# Altium schematic symbol library kmilo17pet-NSC_MiscPower.SchLib: 1552 symbols (part 8 of 43)
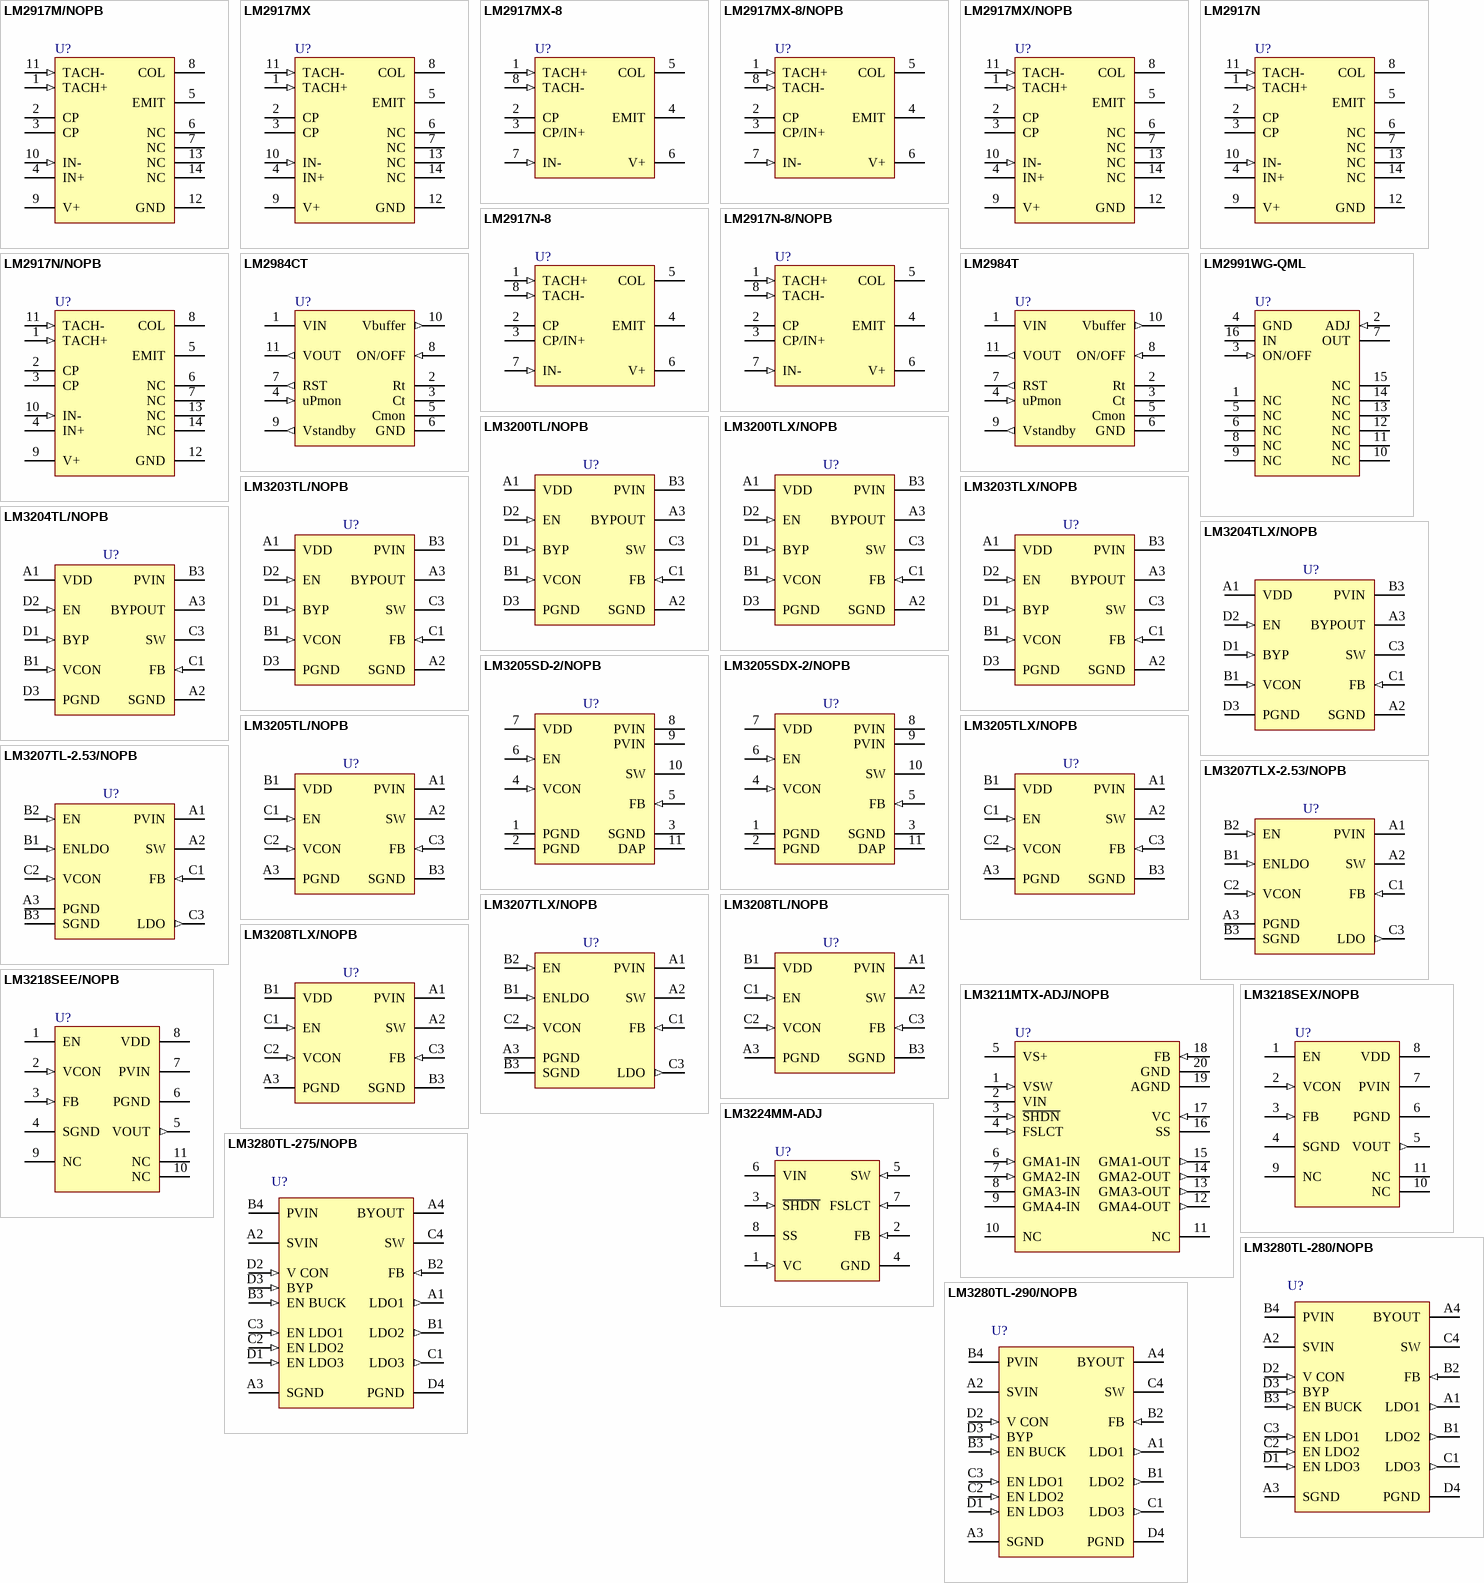
[diagram p64: symbols LM2917M/NOPB to LM3280TL-290/NOPB]

## LM3204TL/NOPB
designator U?
Miniature, Adjustable, Step-Down DC-DC Converter with Bypass Mode for RF Power Amplifiers, 10-pin Micro SMD, Pb-Free; PartNumber: LM3204TL/NOPB; Manufacturer: National Semiconductor; PackageTopMarking: XYTT*I SJDB; PowerWise: Y; CompType: MiscPower; DatasheetVersion: Nov-2005; PackageVersion: revD, Mar-2004; PackageReference: TLP10NHA; PackageDescription: Thin Micro SMD, 10 Bump (Large), Periperal, 0.5mm Pitch; RoHS: Y; PinCount: 10; High-Reliability: Y; Code_JEDEC: MO-211-BD; ComponentLink1Description: Manufacturer URL; ComponentLink1URL: http://www.national.com/; ComponentLink2Description: LM3204 Datasheet; ComponentLink2URL: http://www.national.com/ds/LM/LM3204.pdf; ComponentLink3Description: LM3204 Web Page; ComponentLink3URL: http://www.national.com/pf/LM/LM3204.html; ComponentLink4Description: TLP10NHA Package Page; ComponentLink4URL: http://www.national.com/packaging/folders/tlp10nha.html
footprint TLP10NHA (Micro SMD, 10-Leads, Body 2.17x1.82mm, Pitch 0.5mm, NSC Recommended)
pins: A1 VDD (power), A2 SGND (power), A3 BYPOUT (oe), B1 VCON (in), B3 PVIN (power), C1 FB (in), C3 SW, D1 BYP (in), D2 EN (in), D3 PGND (power)

## LM3204TLX/NOPB
designator U?
Miniature, Adjustable, Step-Down DC-DC Converter with Bypass Mode for RF Power Amplifiers, 10-pin Micro SMD, Pb-Free; PartNumber: LM3204TLX/NOPB; Manufacturer: National Semiconductor; PackageTopMarking: XYTT*I SJDB; PowerWise: Y; CompType: MiscPower; DatasheetVersion: Nov-2005; PackageVersion: revD, Mar-2004; PackageReference: TLP10NHA; PackageDescription: Thin Micro SMD, 10 Bump (Large), Periperal, 0.5mm Pitch; RoHS: Y; PinCount: 10; High-Reliability: Y; Code_JEDEC: MO-211-BD; ComponentLink1Description: Manufacturer URL; ComponentLink1URL: http://www.national.com/; ComponentLink2Description: LM3204 Datasheet; ComponentLink2URL: http://www.national.com/ds/LM/LM3204.pdf; ComponentLink3Description: LM3204 Web Page; ComponentLink3URL: http://www.national.com/pf/LM/LM3204.html; ComponentLink4Description: TLP10NHA Package Page; ComponentLink4URL: http://www.national.com/packaging/folders/tlp10nha.html
footprint TLP10NHA (Micro SMD, 10-Leads, Body 2.17x1.82mm, Pitch 0.5mm, NSC Recommended)
pins: A1 VDD (power), A2 SGND (power), A3 BYPOUT (oe), B1 VCON (in), B3 PVIN (power), C1 FB (in), C3 SW, D1 BYP (in), D2 EN (in), D3 PGND (power)

## LM3205SD-2/NOPB
designator U?
650mA Miniature, Adjustable, Step-Down DC-DC Converter for RF Power Amplifiers, 10-pin LLP, Pb-Free; PartNumber: LM3205SD-2/NOPB; Manufacturer: National Semiconductor; PackageTopMarking: ZXYTT*S006B; PowerWise: Y; CompType: MiscPower; DatasheetVersion: May-2009; PackageVersion: revA, Oct-2003; PackageReference: SDA10A; PackageDescription: LLP, Plastic, Dual, 3 x 3 x 0.8mm Body, 10 Lead, 0.5mm Pitch, No Pullback; RoHS: Y; PinCount: 10; High-Reliability: Y; ComponentLink1Description: Manufacturer URL; ComponentLink1URL: http://www.national.com/; ComponentLink2Description: LM3205 Datasheet; ComponentLink2URL: http://www.national.com/ds/LM/LM3205.pdf; ComponentLink3Description: LM3205 Web Page; ComponentLink3URL: http://www.national.com/pf/LM/LM3205.html; ComponentLink4Description: SDA10A Package Page; ComponentLink4URL: http://www.national.com/packaging/folders/sda10a.html
footprint SDA10A (SON, 10-Leads, Body 3x3 mm, Pitch 0.5mm, NSC Recommended)
pins: 1 PGND (power), 2 PGND (power), 3 SGND (power), 4 VCON (in), 5 FB (in), 6 EN (in), 7 VDD (power), 8 PVIN (power), 9 PVIN (power), 10 SW, 11 DAP (power)

## LM3205SDX-2/NOPB
designator U?
650mA Miniature, Adjustable, Step-Down DC-DC Converter for RF Power Amplifiers, 10-pin LLP, Pb-Free; PartNumber: LM3205SDX-2/NOPB; Manufacturer: National Semiconductor; PackageTopMarking: ZXYTT*S006B; PowerWise: Y; CompType: MiscPower; DatasheetVersion: Jan-2006; PackageVersion: revA, Oct-2003; PackageReference: SDA10A; PackageDescription: LLP, Plastic, Dual, 3 x 3 x 0.8mm Body, 10 Lead, 0.5mm Pitch, No Pullback; RoHS: Y; PinCount: 10; High-Reliability: Y; ComponentLink1Description: Manufacturer URL; ComponentLink1URL: http://www.national.com/; ComponentLink2Description: LM3205 Datasheet; ComponentLink2URL: http://www.national.com/ds/LM/LM3205.pdf; ComponentLink3Description: LM3205 Web Page; ComponentLink3URL: http://www.national.com/pf/LM/LM3205.html; ComponentLink4Description: SDA10A Package Page; ComponentLink4URL: http://www.national.com/packaging/folders/sda10a.html
footprint SDA10A (SON, 10-Leads, Body 3x3 mm, Pitch 0.5mm, NSC Recommended)
pins: 1 PGND (power), 2 PGND (power), 3 SGND (power), 4 VCON (in), 5 FB (in), 6 EN (in), 7 VDD (power), 8 PVIN (power), 9 PVIN (power), 10 SW, 11 DAP (power)

## LM3205TL/NOPB
designator U?
650mA Miniature, Adjustable, Step-Down DC-DC Converter for RF Power Amplifiers, 8-pin Micro SMD, Pb-Free; PartNumber: LM3205TL/NOPB; Manufacturer: National Semiconductor; PackageTopMarking: XVS*I 32; PowerWise: Y; CompType: MiscPower; DatasheetVersion: May-2009; PackageVersion: revC, Jan-2004; PackageReference: TLA08GNA; PackageDescription: Thin Micro SMD, 8 Bump (Large), 0.5mm Pitch; RoHS: Y; PinCount: 8; High-Reliability: Y; Code_JEDEC: MO-211-DD; ComponentLink1Description: Manufacturer URL; ComponentLink1URL: http://www.national.com/; ComponentLink2Description: LM3205 Datasheet; ComponentLink2URL: http://www.national.com/ds/LM/LM3205.pdf; ComponentLink3Description: LM3205 Web Page; ComponentLink3URL: http://www.national.com/pf/LM/LM3205.html; ComponentLink4Description: TLA08GNA Package Page; ComponentLink4URL: http://www.national.com/packaging/folders/tla08gna.html
footprint TLA08GNA (Micro SMD, 8-Leads, Body 1.82x1.67mm, Pitch 0.5mm, NSC Recommended)
pins: A1 PVIN (power), A2 SW, A3 PGND (power), B1 VDD (power), B3 SGND (power), C1 EN (in), C2 VCON (in), C3 FB (in)

## LM3205TLX/NOPB
designator U?
650mA Miniature, Adjustable, Step-Down DC-DC Converter for RF Power Amplifiers, 8-pin Micro SMD, Pb-Free; PartNumber: LM3205TLX/NOPB; Manufacturer: National Semiconductor; PackageTopMarking: XVS*I 32; PowerWise: Y; CompType: MiscPower; DatasheetVersion: Jan-2006; PackageVersion: revC, Jan-2004; PackageReference: TLA08GNA; PackageDescription: Thin Micro SMD, 8 Bump (Large), 0.5mm Pitch; RoHS: Y; PinCount: 8; High-Reliability: Y; Code_JEDEC: MO-211-DD; ComponentLink1Description: Manufacturer URL; ComponentLink1URL: http://www.national.com/; ComponentLink2Description: LM3205 Datasheet; ComponentLink2URL: http://www.national.com/ds/LM/LM3205.pdf; ComponentLink3Description: LM3205 Web Page; ComponentLink3URL: http://www.national.com/pf/LM/LM3205.html; ComponentLink4Description: TLA08GNA Package Page; ComponentLink4URL: http://www.national.com/packaging/folders/tla08gna.html
footprint TLA08GNA (Micro SMD, 8-Leads, Body 1.82x1.67mm, Pitch 0.5mm, NSC Recommended)
pins: A1 PVIN (power), A2 SW, A3 PGND (power), B1 VDD (power), B3 SGND (power), C1 EN (in), C2 VCON (in), C3 FB (in)

## LM3207TL-2.53/NOPB
designator U?
650mA Miniature, Adjustable, Step-Down DC-DC Converter for RF Power Amplifiers, 9-pin Micro SMD, Pb-Free; PartNumber: LM3207TL-2.53/NOPB; Manufacturer: National Semiconductor; PackageTopMarking: XVS*I 43; PowerWise: N; CompType: MiscPower; High-Reliability: Y; DatasheetVersion: Apr-2007; PackageVersion: revC, Jan-2004; PackageReference: TLA09TTA; PackageDescription: Thin Micro SMD, 9 Bump (Large), 0.5mm Pitch; RoHS: Y; PinCount: 9; Code_JEDEC: MO-211-DD; ComponentLink1Description: Manufacturer URL; ComponentLink1URL: http://www.national.com/; ComponentLink2Description: LM3207 Datasheet; ComponentLink2URL: http://www.national.com/ds/LM/LM3207.pdf; ComponentLink3Description: LM3207 Web Page; ComponentLink3URL: http://www.national.com/pf/LM/LM3207.html; ComponentLink4Description: TLA09TTA Package Page; ComponentLink4URL: http://www.national.com/packaging/folders/tla09tta.html
footprint TLA09TTA (Micro SMD, 9-Leads, Body 1.95x1.95mm, Pitch 0.5mm, NSC Recommended)
pins: A1 PVIN (power), A2 SW, A3 PGND (power), B1 ENLDO (in), B2 EN (in), B3 SGND (power), C1 FB (in), C2 VCON (in), C3 LDO (out)

## LM3207TLX-2.53/NOPB
designator U?
650mA Miniature, Adjustable, Step-Down DC-DC Converter for RF Power Amplifiers, 9-pin Micro SMD, Pb-Free; PartNumber: LM3207TLX-2.53/NOPB; Manufacturer: National Semiconductor; PackageTopMarking: XVS*I 43; PowerWise: N; CompType: MiscPower; High-Reliability: Y; DatasheetVersion: Apr-2007; PackageVersion: revC, Jan-2004; PackageReference: TLA09TTA; PackageDescription: Thin Micro SMD, 9 Bump (Large), 0.5mm Pitch; RoHS: Y; PinCount: 9; Code_JEDEC: MO-211-DD; ComponentLink1Description: Manufacturer URL; ComponentLink1URL: http://www.national.com/; ComponentLink2Description: LM3207 Datasheet; ComponentLink2URL: http://www.national.com/ds/LM/LM3207.pdf; ComponentLink3Description: LM3207 Web Page; ComponentLink3URL: http://www.national.com/pf/LM/LM3207.html; ComponentLink4Description: TLA09TTA Package Page; ComponentLink4URL: http://www.national.com/packaging/folders/tla09tta.html
footprint TLA09TTA (Micro SMD, 9-Leads, Body 1.95x1.95mm, Pitch 0.5mm, NSC Recommended)
pins: A1 PVIN (power), A2 SW, A3 PGND (power), B1 ENLDO (in), B2 EN (in), B3 SGND (power), C1 FB (in), C2 VCON (in), C3 LDO (out)

## LM3207TLX/NOPB
designator U?
650mA Miniature, Adjustable, Step-Down DC-DC Converter for RF Power Amplifiers, 9-pin Micro SMD, Pb-Free; PartNumber: LM3207TLX/NOPB; Manufacturer: National Semiconductor; PackageTopMarking: XVS*I 34; PowerWise: Y; CompType: MiscPower; DatasheetVersion: Apr-2007; PackageVersion: revC, Jan-2004; PackageReference: TLA09TTA; PackageDescription: Thin Micro SMD, 9 Bump (Large), 0.5mm Pitch; RoHS: Y; PinCount: 9; High-Reliability: Y; Code_JEDEC: MO-211-DD; ComponentLink1Description: Manufacturer URL; ComponentLink1URL: http://www.national.com/; ComponentLink2Description: LM3207 Datasheet; ComponentLink2URL: http://www.national.com/ds/LM/LM3207.pdf; ComponentLink3Description: LM3207 Web Page; ComponentLink3URL: http://www.national.com/pf/LM/LM3207.html; ComponentLink4Description: TLA09TTA Package Page; ComponentLink4URL: http://www.national.com/packaging/folders/tla09tta.html
footprint TLA09TTA (Micro SMD, 9-Leads, Body 1.95x1.95mm, Pitch 0.5mm, NSC Recommended)
pins: A1 PVIN (power), A2 SW, A3 PGND (power), B1 ENLDO (in), B2 EN (in), B3 SGND (power), C1 FB (in), C2 VCON (in), C3 LDO (out)

## LM3208TL/NOPB
designator U?
650mA Miniature, Adjustable, Step-Down DC-DC Converter for RF Power Amplifiers, 8-pin Micro SMD, Pb-Free; PartNumber: LM3208TL/NOPB; Manufacturer: National Semiconductor; PackageTopMarking: XVS*I 33; PowerWise: Y; CompType: MiscPower; DatasheetVersion: Apr-2006; PackageVersion: revC, Jan-2004; PackageReference: TLA08GNA; PackageDescription: Thin Micro SMD, 8 Bump (Large), 0.5mm Pitch; RoHS: Y; PinCount: 8; High-Reliability: Y; Code_JEDEC: MO-211-DD; ComponentLink1Description: Manufacturer URL; ComponentLink1URL: http://www.national.com/; ComponentLink2Description: LM3208 Datasheet; ComponentLink2URL: http://www.national.com/ds/LM/LM3208.pdf; ComponentLink3Description: LM3208 Web Page; ComponentLink3URL: http://www.national.com/pf/LM/LM3208.html; ComponentLink4Description: TLA08GNA Package Page; ComponentLink4URL: http://www.national.com/packaging/folders/tla08gna.html
footprint TLA08GNA (Micro SMD, 8-Leads, Body 1.82x1.67mm, Pitch 0.5mm, NSC Recommended)
pins: A1 PVIN (power), A2 SW, A3 PGND (power), B1 VDD (power), B3 SGND (power), C1 EN (in), C2 VCON (in), C3 FB (in)

## LM3208TLX/NOPB
designator U?
650mA Miniature, Adjustable, Step-Down DC-DC Converter for RF Power Amplifiers, 8-pin Micro SMD, Pb-Free; PartNumber: LM3208TLX/NOPB; Manufacturer: National Semiconductor; PackageTopMarking: XVS*I 33; PowerWise: Y; CompType: MiscPower; DatasheetVersion: Apr-2006; PackageVersion: revC, Jan-2004; PackageReference: TLA08GNA; PackageDescription: Thin Micro SMD, 8 Bump (Large), 0.5mm Pitch; RoHS: Y; PinCount: 8; High-Reliability: Y; Code_JEDEC: MO-211-DD; ComponentLink1Description: Manufacturer URL; ComponentLink1URL: http://www.national.com/; ComponentLink2Description: LM3208 Datasheet; ComponentLink2URL: http://www.national.com/ds/LM/LM3208.pdf; ComponentLink3Description: LM3208 Web Page; ComponentLink3URL: http://www.national.com/pf/LM/LM3208.html; ComponentLink4Description: TLA08GNA Package Page; ComponentLink4URL: http://www.national.com/packaging/folders/tla08gna.html
footprint TLA08GNA (Micro SMD, 8-Leads, Body 1.82x1.67mm, Pitch 0.5mm, NSC Recommended)
pins: A1 PVIN (power), A2 SW, A3 PGND (power), B1 VDD (power), B3 SGND (power), C1 EN (in), C2 VCON (in), C3 FB (in)

## LM3211MTX-ADJ/NOPB
designator U?
Step-up PWM DC/DC Converter Integrated with 4 Buffers, 20-pin TSSOP, Pb-Free; PartNumber: LM3211MTX-ADJ/NOPB; Manufacturer: National Semiconductor; PackageTopMarking: NSUZXYTT*LM3211*MTADJ; PowerWise: N; CompType: MiscPower; High-Reliability: Y; DatasheetVersion: Feb-2004; PackageVersion: revE, Mar-2003; PackageReference: MTC20; PackageDescription: Molded TSSOP, Jedec, 6.5 x 4.4 x 0.9mm Body, 20 Lead, 0.65mm Pitch; RoHS: Y; PinCount: 20; Code_JEDEC: MO-153-AC; ComponentLink1Description: Manufacturer URL; ComponentLink1URL: http://www.national.com/; ComponentLink2Description: LM3211 Datasheet; ComponentLink2URL: http://www.national.com/ds/LM/LM3211.pdf; ComponentLink3Description: LM3211 Web Page; ComponentLink3URL: http://www.national.com/pf/LM/LM3211.html; ComponentLink4Description: MTC20 Package Page; ComponentLink4URL: http://www.national.com/packaging/folders/mtc20.html
footprint MTC20_N (TSOP, 20-Leads, Body 6.5x4.4mm, Pitch 0.65mm, IPC Medium Density)
footprint MTC20_L (TSOP, 20-Leads, Body 6.5x4.4mm, Pitch 0.65mm, IPC High Density)
footprint MTC20_M (TSOP, 20-Leads, Body 6.5x4.4mm, Pitch 0.65mm, IPC Low Density)
pins: 1 VSW (in), 2 VIN (power), 3 ~{SHDN} (in), 4 FSLCT (in), 5 VS+ (power), 6 GMA1-IN (in), 7 GMA2-IN (in), 8 GMA3-IN, 9 GMA4-IN (power), 10 NC, 11 NC, 12 GMA4-OUT (out), 13 GMA3-OUT (out), 14 GMA2-OUT (out), 15 GMA1-OUT (out), 16 SS, 17 VC (in), 18 FB (in), 19 AGND (power), 20 GND (power)

## LM3218SEE/NOPB
designator U?
650mA Miniature, Adjustable, Step-Down DC-DC Converter for RF Power Amplifiers, 8-pin POS, Pb-Free; PartNumber: LM3218SEE/NOPB; Manufacturer: National Semiconductor; PowerWise: N; CompType: MiscPower; High-Reliability: Y; DatasheetVersion: Jan-2009; PackageVersion: revD, Dec-2008; PackageReference: SE08A; PackageDescription: Package on Substrate, 2.5 x 3.0 x 1.15 mm Body, 8 Pad, 0.65mm Pitch; RoHS: Y; PinCount: 8; ComponentLink1Description: Manufacturer URL; ComponentLink1URL: http://www.national.com/; ComponentLink2Description: LM3218 Datasheet; ComponentLink2URL: http://www.national.com/ds/LM/LM3218.pdf; ComponentLink3Description: LM3218 Web Page; ComponentLink3URL: http://www.national.com/pf/LM/LM3218.html; ComponentLink4Description: SE08A Package Page; ComponentLink4URL: http://www.national.com/packaging/folders/se08a.html
footprint SE08A (POS, 8-Leads, Body 2.5x3.0mm, Pitch 0.65mm, NSC Recommended)
pins: 1 EN (power), 2 VCON (in), 3 FB (in), 4 SGND (power), 5 VOUT (out), 6 PGND (power), 7 PVIN (power), 8 VDD (power), 9 NC, 10 NC, 11 NC

## LM3218SEX/NOPB
designator U?
650mA Miniature, Adjustable, Step-Down DC-DC Converter for RF Power Amplifiers, 8-pin POS, Pb-Free; PartNumber: LM3218SEX/NOPB; Manufacturer: National Semiconductor; PowerWise: N; CompType: MiscPower; High-Reliability: Y; DatasheetVersion: Jan-2009; PackageVersion: revD, Dec-2008; PackageReference: SE08A; PackageDescription: Package on Substrate, 2.5 x 3.0 x 1.15 mm Body, 8 Pad, 0.65mm Pitch; RoHS: Y; PinCount: 8; ComponentLink1Description: Manufacturer URL; ComponentLink1URL: http://www.national.com/; ComponentLink2Description: LM3218 Datasheet; ComponentLink2URL: http://www.national.com/ds/LM/LM3218.pdf; ComponentLink3Description: LM3218 Web Page; ComponentLink3URL: http://www.national.com/pf/LM/LM3218.html; ComponentLink4Description: SE08A Package Page; ComponentLink4URL: http://www.national.com/packaging/folders/se08a.html
footprint SE08A (POS, 8-Leads, Body 2.5x3.0mm, Pitch 0.65mm, NSC Recommended)
pins: 1 EN (power), 2 VCON (in), 3 FB (in), 4 SGND (power), 5 VOUT (out), 6 PGND (power), 7 PVIN (power), 8 VDD (power), 9 NC, 10 NC, 11 NC

## LM3224MM-ADJ
designator U?
615kHz/1.25MHz Step-up PWM DC/DC Converter, 8-pin MSOP; PartNumber: LM3224MM-ADJ; Manufacturer: National Semiconductor; PackageTopMarking: ZXTT*SEKB; PowerWise: N; CompType: MiscPower; High-Reliability: Y; DatasheetVersion: Sep-2005; PackageVersion: revF, Apr-2008; PackageReference: MUA08A; PackageDescription: MINI SOIC, .118 x .118 x .034in, 8 Lead, .0256in Pitch; RoHS: N; PinCount: 8; Code_JEDEC: MO-187-AA; ComponentLink1Description: Manufacturer URL; ComponentLink1URL: http://www.national.com/; ComponentLink2Description: LM3224 Datasheet; ComponentLink2URL: http://www.national.com/ds/LM/LM3224.pdf; ComponentLink3Description: LM3224 Web Page; ComponentLink3URL: http://www.national.com/pf/LM/LM3224.html; ComponentLink4Description: MUA08A Package Page; ComponentLink4URL: http://www.national.com/packaging/folders/mua08a.html
footprint MUA08A_N (TSOP, 8-Leads, Body 3x3mm, Pitch 0.65mm, IPC Medium Density)
footprint MUA08A_L (TSOP, 8-Leads, Body 3x3mm, Pitch 0.65mm, IPC High Density)
footprint MUA08A_M (TSOP, 8-Leads, Body 3x3mm, Pitch 0.65mm, IPC Low Density)
pins: 1 VC (in), 2 FB (in), 3 ~{SHDN} (in), 4 GND (power), 5 SW (in), 6 VIN (power), 7 FSLCT (in), 8 SS

## LM3280TL-275/NOPB
designator U?
Adjustable Step-Down DC-DC Converter and 3 LDOs for RF Power Management, 16-pin Micro SMD, Pb-Free; PartNumber: LM3280TL-275/NOPB; Manufacturer: National Semiconductor; PackageTopMarking: XYTT*I V002; PowerWise: N; CompType: MiscPower; High-Reliability: Y; DatasheetVersion: Jan-2007; PackageVersion: revC, Jan-2004; PackageReference: TLA16QQA; PackageDescription: Thin Micro SMD, 16 Bump (Large), 0.5mm Pitch; RoHS: Y; PinCount: 16; Code_JEDEC: MO-211-DF; ComponentLink1Description: Manufacturer URL; ComponentLink1URL: http://www.national.com/; ComponentLink2Description: LM3280 Datasheet; ComponentLink2URL: http://www.national.com/ds/LM/LM3280.pdf; ComponentLink3Description: LM3280 Web Page; ComponentLink3URL: http://www.national.com/pf/LM/LM3280.html; ComponentLink4Description: TLA16QQA Package Page; ComponentLink4URL: http://www.national.com/packaging/folders/tla16qqa.html
footprint TLA16QQA (Micro SMD, 16-Leads, Body 2.35x2.35mm, Pitch 0.5mm, NSC Recommended)
pins: A1 LDO1 (out), A2 SVIN (power), A3 SGND (power), A4 BYOUT (oc), B1 LDO2 (out), B2 FB (in), B3 EN BUCK (in), B4 PVIN (power), C1 LDO3 (out), C2 EN LDO2 (in), C3 EN LDO1 (in), C4 SW (power), D1 EN LDO3 (in), D2 V CON (in), D3 BYP (in), D4 PGND (power)

## LM3280TL-280/NOPB
designator U?
Adjustable Step-Down DC-DC Converter and 3 LDOs for RF Power Management, 16-pin Micro SMD, Pb-Free; PartNumber: LM3280TL-280/NOPB; Manufacturer: National Semiconductor; PackageTopMarking: XYTT*I V003; PowerWise: N; CompType: MiscPower; High-Reliability: Y; DatasheetVersion: Jan-2007; PackageVersion: revC, Jan-2004; PackageReference: TLA16QQA; PackageDescription: Thin Micro SMD, 16 Bump (Large), 0.5mm Pitch; RoHS: Y; PinCount: 16; Code_JEDEC: MO-211-DF; ComponentLink1Description: Manufacturer URL; ComponentLink1URL: http://www.national.com/; ComponentLink2Description: LM3280 Datasheet; ComponentLink2URL: http://www.national.com/ds/LM/LM3280.pdf; ComponentLink3Description: LM3280 Web Page; ComponentLink3URL: http://www.national.com/pf/LM/LM3280.html; ComponentLink4Description: TLA16QQA Package Page; ComponentLink4URL: http://www.national.com/packaging/folders/tla16qqa.html
footprint TLA16QQA (Micro SMD, 16-Leads, Body 2.35x2.35mm, Pitch 0.5mm, NSC Recommended)
pins: A1 LDO1 (out), A2 SVIN (power), A3 SGND (power), A4 BYOUT (oc), B1 LDO2 (out), B2 FB (in), B3 EN BUCK (in), B4 PVIN (power), C1 LDO3 (out), C2 EN LDO2 (in), C3 EN LDO1 (in), C4 SW (power), D1 EN LDO3 (in), D2 V CON (in), D3 BYP (in), D4 PGND (power)

## LM3280TL-290/NOPB
designator U?
Adjustable Step-Down DC-DC Converter and 3 LDOs for RF Power Management, 16-pin Micro SMD, Pb-Free; PartNumber: LM3280TL-290/NOPB; Manufacturer: National Semiconductor; PackageTopMarking: XYTT*I V004; PowerWise: N; CompType: MiscPower; High-Reliability: Y; DatasheetVersion: Jan-2007; PackageVersion: revC, Jan-2004; PackageReference: TLA16QQA; PackageDescription: Thin Micro SMD, 16 Bump (Large), 0.5mm Pitch; RoHS: Y; PinCount: 16; Code_JEDEC: MO-211-DF; ComponentLink1Description: Manufacturer URL; ComponentLink1URL: http://www.national.com/; ComponentLink2Description: LM3280 Datasheet; ComponentLink2URL: http://www.national.com/ds/LM/LM3280.pdf; ComponentLink3Description: LM3280 Web Page; ComponentLink3URL: http://www.national.com/pf/LM/LM3280.html; ComponentLink4Description: TLA16QQA Package Page; ComponentLink4URL: http://www.national.com/packaging/folders/tla16qqa.html
footprint TLA16QQA (Micro SMD, 16-Leads, Body 2.35x2.35mm, Pitch 0.5mm, NSC Recommended)
pins: A1 LDO1 (out), A2 SVIN (power), A3 SGND (power), A4 BYOUT (oc), B1 LDO2 (out), B2 FB (in), B3 EN BUCK (in), B4 PVIN (power), C1 LDO3 (out), C2 EN LDO2 (in), C3 EN LDO1 (in), C4 SW (power), D1 EN LDO3 (in), D2 V CON (in), D3 BYP (in), D4 PGND (power)

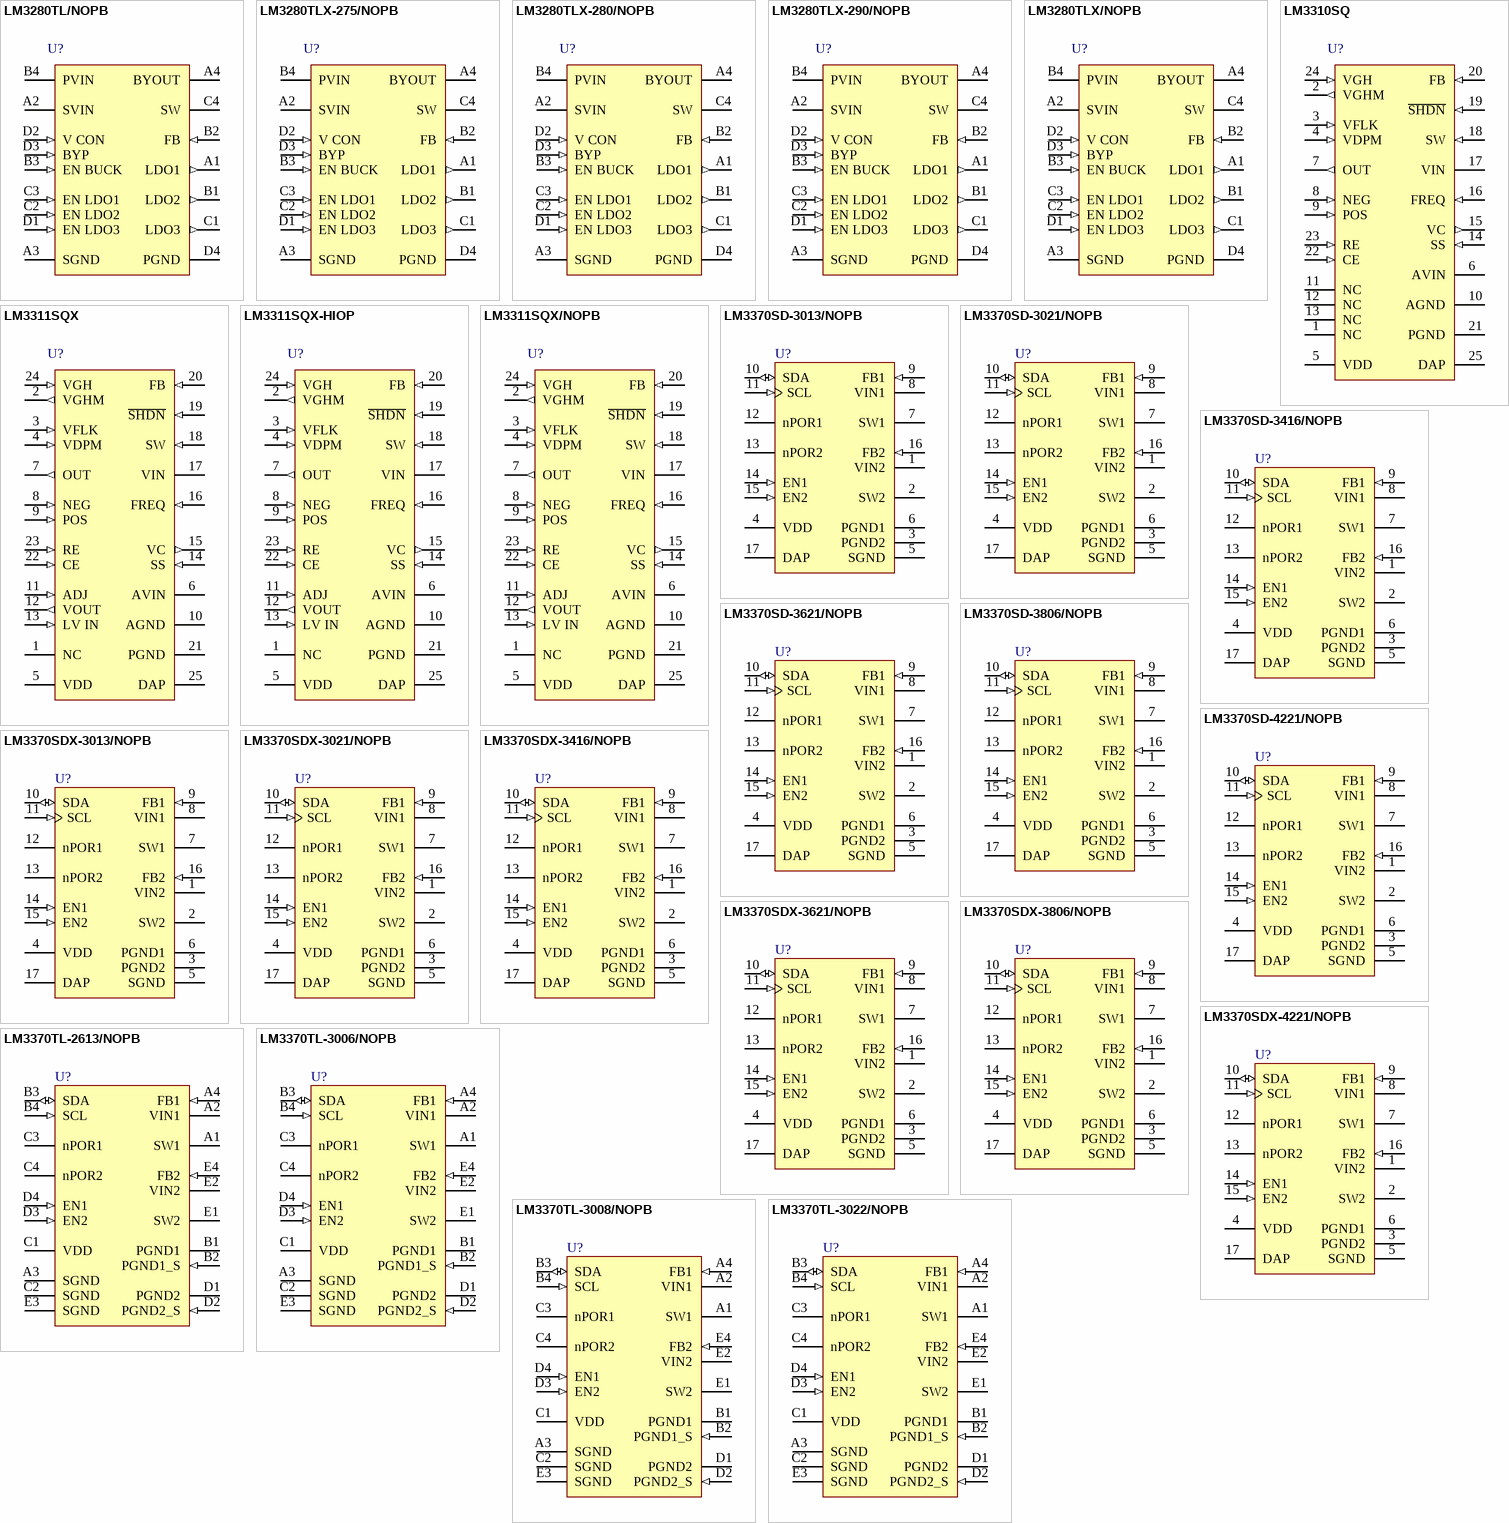
[diagram p9: symbols LM3280TL/NOPB to LM3370TL-3022/NOPB]

## LM3280TL/NOPB
designator U?
Adjustable Step-Down DC-DC Converter and 3 LDOs for RF Power Management, 16-pin Micro SMD, Pb-Free; PartNumber: LM3280TL/NOPB; Manufacturer: National Semiconductor; PackageTopMarking: XYTT*I V001; PowerWise: N; CompType: MiscPower; High-Reliability: Y; DatasheetVersion: Jan-2007; PackageVersion: revC, Jan-2004; PackageReference: TLA16QQA; PackageDescription: Thin Micro SMD, 16 Bump (Large), 0.5mm Pitch; RoHS: Y; PinCount: 16; Code_JEDEC: MO-211-DF; ComponentLink1Description: Manufacturer URL; ComponentLink1URL: http://www.national.com/; ComponentLink2Description: LM3280 Datasheet; ComponentLink2URL: http://www.national.com/ds/LM/LM3280.pdf; ComponentLink3Description: LM3280 Web Page; ComponentLink3URL: http://www.national.com/pf/LM/LM3280.html; ComponentLink4Description: TLA16QQA Package Page; ComponentLink4URL: http://www.national.com/packaging/folders/tla16qqa.html
footprint TLA16QQA (Micro SMD, 16-Leads, Body 2.35x2.35mm, Pitch 0.5mm, NSC Recommended)
pins: A1 LDO1 (out), A2 SVIN (power), A3 SGND (power), A4 BYOUT (oc), B1 LDO2 (out), B2 FB (in), B3 EN BUCK (in), B4 PVIN (power), C1 LDO3 (out), C2 EN LDO2 (in), C3 EN LDO1 (in), C4 SW (power), D1 EN LDO3 (in), D2 V CON (in), D3 BYP (in), D4 PGND (power)

## LM3280TLX-275/NOPB
designator U?
Adjustable Step-Down DC-DC Converter and 3 LDOs for RF Power Management, 16-pin Micro SMD, Pb-Free; PartNumber: LM3280TLX-275/NOPB; Manufacturer: National Semiconductor; PackageTopMarking: XYTT*I V002; PowerWise: N; CompType: MiscPower; High-Reliability: Y; DatasheetVersion: Jan-2007; PackageVersion: revC, Jan-2004; PackageReference: TLA16QQA; PackageDescription: Thin Micro SMD, 16 Bump (Large), 0.5mm Pitch; RoHS: Y; PinCount: 16; Code_JEDEC: MO-211-DF; ComponentLink1Description: Manufacturer URL; ComponentLink1URL: http://www.national.com/; ComponentLink2Description: LM3280 Datasheet; ComponentLink2URL: http://www.national.com/ds/LM/LM3280.pdf; ComponentLink3Description: LM3280 Web Page; ComponentLink3URL: http://www.national.com/pf/LM/LM3280.html; ComponentLink4Description: TLA16QQA Package Page; ComponentLink4URL: http://www.national.com/packaging/folders/tla16qqa.html
footprint TLA16QQA (Micro SMD, 16-Leads, Body 2.35x2.35mm, Pitch 0.5mm, NSC Recommended)
pins: A1 LDO1 (out), A2 SVIN (power), A3 SGND (power), A4 BYOUT (oc), B1 LDO2 (out), B2 FB (in), B3 EN BUCK (in), B4 PVIN (power), C1 LDO3 (out), C2 EN LDO2 (in), C3 EN LDO1 (in), C4 SW (power), D1 EN LDO3 (in), D2 V CON (in), D3 BYP (in), D4 PGND (power)

## LM3280TLX-280/NOPB
designator U?
Adjustable Step-Down DC-DC Converter and 3 LDOs for RF Power Management, 16-pin Micro SMD, Pb-Free; PartNumber: LM3280TLX-280/NOPB; Manufacturer: National Semiconductor; PackageTopMarking: XYTT*I V003; PowerWise: N; CompType: MiscPower; High-Reliability: Y; DatasheetVersion: Jan-2007; PackageVersion: revC, Jan-2004; PackageReference: TLA16QQA; PackageDescription: Thin Micro SMD, 16 Bump (Large), 0.5mm Pitch; RoHS: Y; PinCount: 16; Code_JEDEC: MO-211-DF; ComponentLink1Description: Manufacturer URL; ComponentLink1URL: http://www.national.com/; ComponentLink2Description: LM3280 Datasheet; ComponentLink2URL: http://www.national.com/ds/LM/LM3280.pdf; ComponentLink3Description: LM3280 Web Page; ComponentLink3URL: http://www.national.com/pf/LM/LM3280.html; ComponentLink4Description: TLA16QQA Package Page; ComponentLink4URL: http://www.national.com/packaging/folders/tla16qqa.html
footprint TLA16QQA (Micro SMD, 16-Leads, Body 2.35x2.35mm, Pitch 0.5mm, NSC Recommended)
pins: A1 LDO1 (out), A2 SVIN (power), A3 SGND (power), A4 BYOUT (oc), B1 LDO2 (out), B2 FB (in), B3 EN BUCK (in), B4 PVIN (power), C1 LDO3 (out), C2 EN LDO2 (in), C3 EN LDO1 (in), C4 SW (power), D1 EN LDO3 (in), D2 V CON (in), D3 BYP (in), D4 PGND (power)

## LM3280TLX-290/NOPB
designator U?
Adjustable Step-Down DC-DC Converter and 3 LDOs for RF Power Management, 16-pin Micro SMD, Pb-Free; PartNumber: LM3280TLX-290/NOPB; Manufacturer: National Semiconductor; PackageTopMarking: XYTT*I V004; PowerWise: N; CompType: MiscPower; High-Reliability: Y; DatasheetVersion: Jan-2007; PackageVersion: revC, Jan-2004; PackageReference: TLA16QQA; PackageDescription: Thin Micro SMD, 16 Bump (Large), 0.5mm Pitch; RoHS: Y; PinCount: 16; Code_JEDEC: MO-211-DF; ComponentLink1Description: Manufacturer URL; ComponentLink1URL: http://www.national.com/; ComponentLink2Description: LM3280 Datasheet; ComponentLink2URL: http://www.national.com/ds/LM/LM3280.pdf; ComponentLink3Description: LM3280 Web Page; ComponentLink3URL: http://www.national.com/pf/LM/LM3280.html; ComponentLink4Description: TLA16QQA Package Page; ComponentLink4URL: http://www.national.com/packaging/folders/tla16qqa.html
footprint TLA16QQA (Micro SMD, 16-Leads, Body 2.35x2.35mm, Pitch 0.5mm, NSC Recommended)
pins: A1 LDO1 (out), A2 SVIN (power), A3 SGND (power), A4 BYOUT (oc), B1 LDO2 (out), B2 FB (in), B3 EN BUCK (in), B4 PVIN (power), C1 LDO3 (out), C2 EN LDO2 (in), C3 EN LDO1 (in), C4 SW (power), D1 EN LDO3 (in), D2 V CON (in), D3 BYP (in), D4 PGND (power)

## LM3280TLX/NOPB
designator U?
Adjustable Step-Down DC-DC Converter and 3 LDOs for RF Power Management, 16-pin Micro SMD, Pb-Free; PartNumber: LM3280TLX/NOPB; Manufacturer: National Semiconductor; PackageTopMarking: XYTT*I V001; PowerWise: N; CompType: MiscPower; High-Reliability: Y; DatasheetVersion: Jan-2007; PackageVersion: revC, Jan-2004; PackageReference: TLA16QQA; PackageDescription: Thin Micro SMD, 16 Bump (Large), 0.5mm Pitch; RoHS: Y; PinCount: 16; Code_JEDEC: MO-211-DF; ComponentLink1Description: Manufacturer URL; ComponentLink1URL: http://www.national.com/; ComponentLink2Description: LM3280 Datasheet; ComponentLink2URL: http://www.national.com/ds/LM/LM3280.pdf; ComponentLink3Description: LM3280 Web Page; ComponentLink3URL: http://www.national.com/pf/LM/LM3280.html; ComponentLink4Description: TLA16QQA Package Page; ComponentLink4URL: http://www.national.com/packaging/folders/tla16qqa.html
footprint TLA16QQA (Micro SMD, 16-Leads, Body 2.35x2.35mm, Pitch 0.5mm, NSC Recommended)
pins: A1 LDO1 (out), A2 SVIN (power), A3 SGND (power), A4 BYOUT (oc), B1 LDO2 (out), B2 FB (in), B3 EN BUCK (in), B4 PVIN (power), C1 LDO3 (out), C2 EN LDO2 (in), C3 EN LDO1 (in), C4 SW (power), D1 EN LDO3 (in), D2 V CON (in), D3 BYP (in), D4 PGND (power)

## LM3310SQ
designator U?
Step-Up PWM DC/DC Converter with Integrated Op-Amp and Gate Pulse Modulation Switch, 24-pin LLP; PartNumber: LM3310SQ; Manufacturer: National Semiconductor; PackageTopMarking: NS*UZXYTT*L3310SQ; PowerWise: N; CompType: MiscPower; High-Reliability: Y; DatasheetVersion: Nov-2007; PackageVersion: revB, Aug-2003; PackageReference: SQA24A; PackageDescription: LLP, Plastic, Quad, 4 x 4 x 0.8mm Body, 24 Lead, 0.5mm Pitch, No Pullback; RoHS: N; PinCount: 24; Code_JEDEC: MO-220-WGGD-6; ComponentLink1Description: Manufacturer URL; ComponentLink1URL: http://www.national.com/; ComponentLink2Description: LM3310 Datasheet; ComponentLink2URL: http://www.national.com/ds/LM/LM3310.pdf; ComponentLink3Description: LM3310 Web Page; ComponentLink3URL: http://www.national.com/pf/LM/LM3310.html; ComponentLink4Description: SQA24A Package Page; ComponentLink4URL: http://www.national.com/packaging/folders/sqa24a.html
footprint SQA24A (QFN, 24-Leads, Body 4x4mm, Pitch 0.5mm, Thermal Pad 2.7x2.7mm, NSC Recommended)
pins: 1 NC, 2 VGHM (out), 3 VFLK (in), 4 VDPM (in), 5 VDD (power), 6 AVIN (power), 7 OUT (out), 8 NEG (in), 9 POS (in), 10 AGND (power), 11 NC, 12 NC, 13 NC, 14 SS (in), 15 VC (out), 16 FREQ (in), 17 VIN (power), 18 SW (in), 19 ~{SHDN} (in), 20 FB (in), 21 PGND (power), 22 CE (in), 23 RE (in), 24 VGH (in), 25 DAP (power)

## LM3311SQX
designator U?
Step-Up PWM DC/DC Converter with Integrated LDO, Op-Amp, and Gate Pulse Modulation Switch, 24-pin LLP; PartNumber: LM3311SQX; Manufacturer: National Semiconductor; PackageTopMarking: NS*UZXYTT*L3311SQ; PowerWise: N; CompType: MiscPower; High-Reliability: Y; DatasheetVersion: Nov-2007; PackageVersion: revB, Aug-2003; PackageReference: SQA24A; PackageDescription: LLP, Plastic, Quad, 4 x 4 x 0.8mm Body, 24 Lead, 0.5mm Pitch, No Pullback; RoHS: N; PinCount: 24; Code_JEDEC: MO-220-WGGD-6; ComponentLink1Description: Manufacturer URL; ComponentLink1URL: http://www.national.com/; ComponentLink2Description: LM3311 Datasheet; ComponentLink2URL: http://www.national.com/ds/LM/LM3311.pdf; ComponentLink3Description: LM3311 Web Page; ComponentLink3URL: http://www.national.com/pf/LM/LM3311.html; ComponentLink4Description: SQA24A Package Page; ComponentLink4URL: http://www.national.com/packaging/folders/sqa24a.html
footprint SQA24A (QFN, 24-Leads, Body 4x4mm, Pitch 0.5mm, Thermal Pad 2.7x2.7mm, NSC Recommended)
pins: 1 NC, 2 VGHM (out), 3 VFLK (in), 4 VDPM (in), 5 VDD (power), 6 AVIN (power), 7 OUT (out), 8 NEG (in), 9 POS (in), 10 AGND (power), 11 ADJ (in), 12 VOUT (out), 13 LV IN (in), 14 SS (in), 15 VC (out), 16 FREQ (in), 17 VIN (power), 18 SW (in), 19 ~{SHDN} (in), 20 FB (in), 21 PGND (power), 22 CE (in), 23 RE (in), 24 VGH (in), 25 DAP (power)

## LM3311SQX-HIOP
designator U?
Step-Up PWM DC/DC Converter with Integrated LDO, Op-Amp, and Gate Pulse Modulation Switch, 24-pin LLP; PartNumber: LM3311SQX-HIOP; Manufacturer: National Semiconductor; PackageTopMarking: NS*UZXYTT*L3311HP; PowerWise: N; CompType: MiscPower; High-Reliability: Y; DatasheetVersion: Nov-2007; PackageVersion: revB, Aug-2003; PackageReference: SQA24A; PackageDescription: LLP, Plastic, Quad, 4 x 4 x 0.8mm Body, 24 Lead, 0.5mm Pitch, No Pullback; RoHS: N; PinCount: 24; Code_JEDEC: MO-220-WGGD-6; ComponentLink1Description: Manufacturer URL; ComponentLink1URL: http://www.national.com/; ComponentLink2Description: LM3311 Datasheet; ComponentLink2URL: http://www.national.com/ds/LM/LM3311.pdf; ComponentLink3Description: LM3311 Web Page; ComponentLink3URL: http://www.national.com/pf/LM/LM3311.html; ComponentLink4Description: SQA24A Package Page; ComponentLink4URL: http://www.national.com/packaging/folders/sqa24a.html
footprint SQA24A (QFN, 24-Leads, Body 4x4mm, Pitch 0.5mm, Thermal Pad 2.7x2.7mm, NSC Recommended)
pins: 1 NC, 2 VGHM (out), 3 VFLK (in), 4 VDPM (in), 5 VDD (power), 6 AVIN (power), 7 OUT (out), 8 NEG (in), 9 POS (in), 10 AGND (power), 11 ADJ (in), 12 VOUT (out), 13 LV IN (in), 14 SS (in), 15 VC (out), 16 FREQ (in), 17 VIN (power), 18 SW (in), 19 ~{SHDN} (in), 20 FB (in), 21 PGND (power), 22 CE (in), 23 RE (in), 24 VGH (in), 25 DAP (power)

## LM3311SQX/NOPB
designator U?
Step-Up PWM DC/DC Converter with Integrated LDO, Op-Amp, and Gate Pulse Modulation Switch, 24-pin LLP, Pb-Free; PartNumber: LM3311SQX/NOPB; Manufacturer: National Semiconductor; PackageTopMarking: NS*UZXYTT*L3311SQ; PowerWise: N; CompType: MiscPower; High-Reliability: Y; DatasheetVersion: Nov-2007; PackageVersion: revB, Aug-2003; PackageReference: SQA24A; PackageDescription: LLP, Plastic, Quad, 4 x 4 x 0.8mm Body, 24 Lead, 0.5mm Pitch, No Pullback; RoHS: Y; PinCount: 24; Code_JEDEC: MO-220-WGGD-6; ComponentLink1Description: Manufacturer URL; ComponentLink1URL: http://www.national.com/; ComponentLink2Description: LM3311 Datasheet; ComponentLink2URL: http://www.national.com/ds/LM/LM3311.pdf; ComponentLink3Description: LM3311 Web Page; ComponentLink3URL: http://www.national.com/pf/LM/LM3311.html; ComponentLink4Description: SQA24A Package Page; ComponentLink4URL: http://www.national.com/packaging/folders/sqa24a.html
footprint SQA24A (QFN, 24-Leads, Body 4x4mm, Pitch 0.5mm, Thermal Pad 2.7x2.7mm, NSC Recommended)
pins: 1 NC, 2 VGHM (out), 3 VFLK (in), 4 VDPM (in), 5 VDD (power), 6 AVIN (power), 7 OUT (out), 8 NEG (in), 9 POS (in), 10 AGND (power), 11 ADJ (in), 12 VOUT (out), 13 LV IN (in), 14 SS (in), 15 VC (out), 16 FREQ (in), 17 VIN (power), 18 SW (in), 19 ~{SHDN} (in), 20 FB (in), 21 PGND (power), 22 CE (in), 23 RE (in), 24 VGH (in), 25 DAP (power)

## LM3370SD-3013/NOPB
designator U?
Dual Synchronous Step-Down DC-DC Converter with Dynamic Voltage Scaling Function, 16-pin LLP, Pb-Free; PartNumber: LM3370SD-3013/NOPB; Manufacturer: National Semiconductor; PackageTopMarking: NS*UZXYTT*S0003UB; PowerWise: Y; CompType: MiscPower; DatasheetVersion: Jan-2008; PackageVersion: revA, Dec-2004; PackageReference: SDA16B; PackageDescription: LLP, Plastic, Dual, 5 x 4 x 0.8mm, 16 Lead, 0.5mm Pitch, No Pullback; RoHS: Y; PinCount: 16; High-Reliability: Y; ComponentLink1Description: Manufacturer URL; ComponentLink1URL: http://www.national.com/; ComponentLink2Description: LM3370 Datasheet; ComponentLink2URL: http://www.national.com/ds/LM/LM3370.pdf; ComponentLink3Description: LM3370 Web Page; ComponentLink3URL: http://www.national.com/pf/LM/LM3370.html; ComponentLink4Description: SDA16B Package Page; ComponentLink4URL: http://www.national.com/packaging/folders/sda16b.html
footprint SDA16B (SON, 16-Leads, Body 5x4mm, Pitch 0.5mm, NSC Recommended)
pins: 1 VIN2 (power) "Power supply voltage input to PFET and NFET switches for Buck 2", 2 SW2 (power) "Buck 2 Switch Pin", 3 PGND2 (power) "Buck 2 Power Ground", 4 VDD (power) "Signal supply voltage input, VDDmust be equal or greater of the two inputs (VIN1& VIN2)", 5 SGND (power) "Signal GND", 6 PGND1 (power) "Buck 1 Power Ground", 7 SW1 (power) "Buck 1 Switch Pin", 8 VIN1 (power) "Power supply voltage input to PFET and NFET switches for Buck 1", 9 FB1 (in) "Analog Feedback Input for Buck 1", 10 SDA (io) "I2C Compatible Data, a 2 kOhm pull up resistor is required", 11 SCL (in) "I2C Compatible Clock, a 2 kOhm pull up resistor is required", 12 nPOR1 (oc) "Power ON Reset for Buck 1, Open drain output Low when Buck 1 output is 92% of target output.", 13 nPOR2 (oc) "Power ON Reset for Buck 2, Open drain output Low when Buck 2 output is 92% of target output.", 14 EN1 (in) "Buck 1 Enable", 15 EN2 (in) "Buck 2 Enable", 16 FB2 (in) "Analog feedback for Buck 2", 17 DAP (power)

## LM3370SD-3021/NOPB
designator U?
Dual Synchronous Step-Down DC-DC Converter with Dynamic Voltage Scaling Function, 16-pin LLP, Pb-Free; PartNumber: LM3370SD-3021/NOPB; Manufacturer: National Semiconductor; PackageTopMarking: NS*UZXYTT*S0003TB; PowerWise: Y; CompType: MiscPower; DatasheetVersion: Jan-2008; PackageVersion: revA, Dec-2004; PackageReference: SDA16B; PackageDescription: LLP, Plastic, Dual, 5 x 4 x 0.8mm, 16 Lead, 0.5mm Pitch, No Pullback; RoHS: Y; PinCount: 16; High-Reliability: Y; ComponentLink1Description: Manufacturer URL; ComponentLink1URL: http://www.national.com/; ComponentLink2Description: LM3370 Datasheet; ComponentLink2URL: http://www.national.com/ds/LM/LM3370.pdf; ComponentLink3Description: LM3370 Web Page; ComponentLink3URL: http://www.national.com/pf/LM/LM3370.html; ComponentLink4Description: SDA16B Package Page; ComponentLink4URL: http://www.national.com/packaging/folders/sda16b.html
footprint SDA16B (SON, 16-Leads, Body 5x4mm, Pitch 0.5mm, NSC Recommended)
pins: 1 VIN2 (power) "Power supply voltage input to PFET and NFET switches for Buck 2", 2 SW2 (power) "Buck 2 Switch Pin", 3 PGND2 (power) "Buck 2 Power Ground", 4 VDD (power) "Signal supply voltage input, VDDmust be equal or greater of the two inputs (VIN1& VIN2)", 5 SGND (power) "Signal GND", 6 PGND1 (power) "Buck 1 Power Ground", 7 SW1 (power) "Buck 1 Switch Pin", 8 VIN1 (power) "Power supply voltage input to PFET and NFET switches for Buck 1", 9 FB1 (in) "Analog Feedback Input for Buck 1", 10 SDA (io) "I2C Compatible Data, a 2 kOhm pull up resistor is required", 11 SCL (in) "I2C Compatible Clock, a 2 kOhm pull up resistor is required", 12 nPOR1 (oc) "Power ON Reset for Buck 1, Open drain output Low when Buck 1 output is 92% of target output.", 13 nPOR2 (oc) "Power ON Reset for Buck 2, Open drain output Low when Buck 2 output is 92% of target output.", 14 EN1 (in) "Buck 1 Enable", 15 EN2 (in) "Buck 2 Enable", 16 FB2 (in) "Analog feedback for Buck 2", 17 DAP (power)

## LM3370SD-3416/NOPB
designator U?
Dual Synchronous Step-Down DC-DC Converter with Dynamic Voltage Scaling Function, 16-pin LLP, Pb-Free; PartNumber: LM3370SD-3416/NOPB; Manufacturer: National Semiconductor; PackageTopMarking: NS*UZXYTT*S0003VB; PowerWise: Y; CompType: MiscPower; DatasheetVersion: Jan-2008; PackageVersion: revA, Dec-2004; PackageReference: SDA16B; PackageDescription: LLP, Plastic, Dual, 5 x 4 x 0.8mm, 16 Lead, 0.5mm Pitch, No Pullback; RoHS: Y; PinCount: 16; High-Reliability: Y; ComponentLink1Description: Manufacturer URL; ComponentLink1URL: http://www.national.com/; ComponentLink2Description: LM3370 Datasheet; ComponentLink2URL: http://www.national.com/ds/LM/LM3370.pdf; ComponentLink3Description: LM3370 Web Page; ComponentLink3URL: http://www.national.com/pf/LM/LM3370.html; ComponentLink4Description: SDA16B Package Page; ComponentLink4URL: http://www.national.com/packaging/folders/sda16b.html
footprint SDA16B (SON, 16-Leads, Body 5x4mm, Pitch 0.5mm, NSC Recommended)
pins: 1 VIN2 (power) "Power supply voltage input to PFET and NFET switches for Buck 2", 2 SW2 (power) "Buck 2 Switch Pin", 3 PGND2 (power) "Buck 2 Power Ground", 4 VDD (power) "Signal supply voltage input, VDDmust be equal or greater of the two inputs (VIN1& VIN2)", 5 SGND (power) "Signal GND", 6 PGND1 (power) "Buck 1 Power Ground", 7 SW1 (power) "Buck 1 Switch Pin", 8 VIN1 (power) "Power supply voltage input to PFET and NFET switches for Buck 1", 9 FB1 (in) "Analog Feedback Input for Buck 1", 10 SDA (io) "I2C Compatible Data, a 2 kOhm pull up resistor is required", 11 SCL (in) "I2C Compatible Clock, a 2 kOhm pull up resistor is required", 12 nPOR1 (oc) "Power ON Reset for Buck 1, Open drain output Low when Buck 1 output is 92% of target output.", 13 nPOR2 (oc) "Power ON Reset for Buck 2, Open drain output Low when Buck 2 output is 92% of target output.", 14 EN1 (in) "Buck 1 Enable", 15 EN2 (in) "Buck 2 Enable", 16 FB2 (in) "Analog feedback for Buck 2", 17 DAP (power)

## LM3370SD-3621/NOPB
designator U?
Dual Synchronous Step-Down DC-DC Converter with Dynamic Voltage Scaling Function, 16-pin LLP, Pb-Free; PartNumber: LM3370SD-3621/NOPB; Manufacturer: National Semiconductor; PackageTopMarking: NS*UZXYTT*S0004AB; PowerWise: N; CompType: MiscPower; High-Reliability: Y; DatasheetVersion: Jan-2008; PackageVersion: revA, Dec-2004; PackageReference: SDA16B; PackageDescription: LLP, Plastic, Dual, 5 x 4 x 0.8mm, 16 Lead, 0.5mm Pitch, No Pullback; RoHS: Y; PinCount: 16; ComponentLink1Description: Manufacturer URL; ComponentLink1URL: http://www.national.com/; ComponentLink2Description: LM3370 Datasheet; ComponentLink2URL: http://www.national.com/ds/LM/LM3370.pdf; ComponentLink3Description: LM3370 Web Page; ComponentLink3URL: http://www.national.com/pf/LM/LM3370.html; ComponentLink4Description: SDA16B Package Page; ComponentLink4URL: http://www.national.com/packaging/folders/sda16b.html
footprint SDA16B (SON, 16-Leads, Body 5x4mm, Pitch 0.5mm, NSC Recommended)
pins: 1 VIN2 (power) "Power supply voltage input to PFET and NFET switches for Buck 2", 2 SW2 (power) "Buck 2 Switch Pin", 3 PGND2 (power) "Buck 2 Power Ground", 4 VDD (power) "Signal supply voltage input, VDDmust be equal or greater of the two inputs (VIN1& VIN2)", 5 SGND (power) "Signal GND", 6 PGND1 (power) "Buck 1 Power Ground", 7 SW1 (power) "Buck 1 Switch Pin", 8 VIN1 (power) "Power supply voltage input to PFET and NFET switches for Buck 1", 9 FB1 (in) "Analog Feedback Input for Buck 1", 10 SDA (io) "I2C Compatible Data, a 2 kOhm pull up resistor is required", 11 SCL (in) "I2C Compatible Clock, a 2 kOhm pull up resistor is required", 12 nPOR1 (oc) "Power ON Reset for Buck 1, Open drain output Low when Buck 1 output is 92% of target output.", 13 nPOR2 (oc) "Power ON Reset for Buck 2, Open drain output Low when Buck 2 output is 92% of target output.", 14 EN1 (in) "Buck 1 Enable", 15 EN2 (in) "Buck 2 Enable", 16 FB2 (in) "Analog feedback for Buck 2", 17 DAP (power)

## LM3370SD-3806/NOPB
designator U?
Dual Synchronous Step-Down DC-DC Converter with Dynamic Voltage Scaling Function, 16-pin LLP, Pb-Free; PartNumber: LM3370SD-3806/NOPB; Manufacturer: National Semiconductor; PackageTopMarking: NS*UZXYTT*S0003XB; PowerWise: Y; CompType: MiscPower; DatasheetVersion: Jan-2008; PackageVersion: revA, Dec-2004; PackageReference: SDA16B; PackageDescription: LLP, Plastic, Dual, 5 x 4 x 0.8mm, 16 Lead, 0.5mm Pitch, No Pullback; RoHS: Y; PinCount: 16; High-Reliability: Y; ComponentLink1Description: Manufacturer URL; ComponentLink1URL: http://www.national.com/; ComponentLink2Description: LM3370 Datasheet; ComponentLink2URL: http://www.national.com/ds/LM/LM3370.pdf; ComponentLink3Description: LM3370 Web Page; ComponentLink3URL: http://www.national.com/pf/LM/LM3370.html; ComponentLink4Description: SDA16B Package Page; ComponentLink4URL: http://www.national.com/packaging/folders/sda16b.html
footprint SDA16B (SON, 16-Leads, Body 5x4mm, Pitch 0.5mm, NSC Recommended)
pins: 1 VIN2 (power) "Power supply voltage input to PFET and NFET switches for Buck 2", 2 SW2 (power) "Buck 2 Switch Pin", 3 PGND2 (power) "Buck 2 Power Ground", 4 VDD (power) "Signal supply voltage input, VDDmust be equal or greater of the two inputs (VIN1& VIN2)", 5 SGND (power) "Signal GND", 6 PGND1 (power) "Buck 1 Power Ground", 7 SW1 (power) "Buck 1 Switch Pin", 8 VIN1 (power) "Power supply voltage input to PFET and NFET switches for Buck 1", 9 FB1 (in) "Analog Feedback Input for Buck 1", 10 SDA (io) "I2C Compatible Data, a 2 kOhm pull up resistor is required", 11 SCL (in) "I2C Compatible Clock, a 2 kOhm pull up resistor is required", 12 nPOR1 (oc) "Power ON Reset for Buck 1, Open drain output Low when Buck 1 output is 92% of target output.", 13 nPOR2 (oc) "Power ON Reset for Buck 2, Open drain output Low when Buck 2 output is 92% of target output.", 14 EN1 (in) "Buck 1 Enable", 15 EN2 (in) "Buck 2 Enable", 16 FB2 (in) "Analog feedback for Buck 2", 17 DAP (power)

## LM3370SD-4221/NOPB
designator U?
Dual Synchronous Step-Down DC-DC Converter with Dynamic Voltage Scaling Function, 16-pin LLP, Pb-Free; PartNumber: LM3370SD-4221/NOPB; Manufacturer: National Semiconductor; PackageTopMarking: NS*UZXYTT*S0003YB; PowerWise: Y; CompType: MiscPower; DatasheetVersion: Jan-2008; PackageVersion: revA, Dec-2004; PackageReference: SDA16B; PackageDescription: LLP, Plastic, Dual, 5 x 4 x 0.8mm, 16 Lead, 0.5mm Pitch, No Pullback; RoHS: Y; PinCount: 16; High-Reliability: Y; ComponentLink1Description: Manufacturer URL; ComponentLink1URL: http://www.national.com/; ComponentLink2Description: LM3370 Datasheet; ComponentLink2URL: http://www.national.com/ds/LM/LM3370.pdf; ComponentLink3Description: LM3370 Web Page; ComponentLink3URL: http://www.national.com/pf/LM/LM3370.html; ComponentLink4Description: SDA16B Package Page; ComponentLink4URL: http://www.national.com/packaging/folders/sda16b.html
footprint SDA16B (SON, 16-Leads, Body 5x4mm, Pitch 0.5mm, NSC Recommended)
pins: 1 VIN2 (power) "Power supply voltage input to PFET and NFET switches for Buck 2", 2 SW2 (power) "Buck 2 Switch Pin", 3 PGND2 (power) "Buck 2 Power Ground", 4 VDD (power) "Signal supply voltage input, VDDmust be equal or greater of the two inputs (VIN1& VIN2)", 5 SGND (power) "Signal GND", 6 PGND1 (power) "Buck 1 Power Ground", 7 SW1 (power) "Buck 1 Switch Pin", 8 VIN1 (power) "Power supply voltage input to PFET and NFET switches for Buck 1", 9 FB1 (in) "Analog Feedback Input for Buck 1", 10 SDA (io) "I2C Compatible Data, a 2 kOhm pull up resistor is required", 11 SCL (in) "I2C Compatible Clock, a 2 kOhm pull up resistor is required", 12 nPOR1 (oc) "Power ON Reset for Buck 1, Open drain output Low when Buck 1 output is 92% of target output.", 13 nPOR2 (oc) "Power ON Reset for Buck 2, Open drain output Low when Buck 2 output is 92% of target output.", 14 EN1 (in) "Buck 1 Enable", 15 EN2 (in) "Buck 2 Enable", 16 FB2 (in) "Analog feedback for Buck 2", 17 DAP (power)

## LM3370SDX-3013/NOPB
designator U?
Dual Synchronous Step-Down DC-DC Converter with Dynamic Voltage Scaling Function, 16-pin LLP, Pb-Free; PartNumber: LM3370SDX-3013/NOPB; Manufacturer: National Semiconductor; PackageTopMarking: NS*UZXYTT*S0003UB; PowerWise: Y; CompType: MiscPower; DatasheetVersion: Jan-2008; PackageVersion: revA, Dec-2004; PackageReference: SDA16B; PackageDescription: LLP, Plastic, Dual, 5 x 4 x 0.8mm, 16 Lead, 0.5mm Pitch, No Pullback; RoHS: Y; PinCount: 16; High-Reliability: Y; ComponentLink1Description: Manufacturer URL; ComponentLink1URL: http://www.national.com/; ComponentLink2Description: LM3370 Datasheet; ComponentLink2URL: http://www.national.com/ds/LM/LM3370.pdf; ComponentLink3Description: LM3370 Web Page; ComponentLink3URL: http://www.national.com/pf/LM/LM3370.html; ComponentLink4Description: SDA16B Package Page; ComponentLink4URL: http://www.national.com/packaging/folders/sda16b.html
footprint SDA16B (SON, 16-Leads, Body 5x4mm, Pitch 0.5mm, NSC Recommended)
pins: 1 VIN2 (power) "Power supply voltage input to PFET and NFET switches for Buck 2", 2 SW2 (power) "Buck 2 Switch Pin", 3 PGND2 (power) "Buck 2 Power Ground", 4 VDD (power) "Signal supply voltage input, VDDmust be equal or greater of the two inputs (VIN1& VIN2)", 5 SGND (power) "Signal GND", 6 PGND1 (power) "Buck 1 Power Ground", 7 SW1 (power) "Buck 1 Switch Pin", 8 VIN1 (power) "Power supply voltage input to PFET and NFET switches for Buck 1", 9 FB1 (in) "Analog Feedback Input for Buck 1", 10 SDA (io) "I2C Compatible Data, a 2 kOhm pull up resistor is required", 11 SCL (in) "I2C Compatible Clock, a 2 kOhm pull up resistor is required", 12 nPOR1 (oc) "Power ON Reset for Buck 1, Open drain output Low when Buck 1 output is 92% of target output.", 13 nPOR2 (oc) "Power ON Reset for Buck 2, Open drain output Low when Buck 2 output is 92% of target output.", 14 EN1 (in) "Buck 1 Enable", 15 EN2 (in) "Buck 2 Enable", 16 FB2 (in) "Analog feedback for Buck 2", 17 DAP (power)

## LM3370SDX-3021/NOPB
designator U?
Dual Synchronous Step-Down DC-DC Converter with Dynamic Voltage Scaling Function, 16-pin LLP, Pb-Free; PartNumber: LM3370SDX-3021/NOPB; Manufacturer: National Semiconductor; PackageTopMarking: NS*UZXYTT*S0003TB; PowerWise: Y; CompType: MiscPower; DatasheetVersion: Jan-2008; PackageVersion: revA, Dec-2004; PackageReference: SDA16B; PackageDescription: LLP, Plastic, Dual, 5 x 4 x 0.8mm, 16 Lead, 0.5mm Pitch, No Pullback; RoHS: Y; PinCount: 16; High-Reliability: Y; ComponentLink1Description: Manufacturer URL; ComponentLink1URL: http://www.national.com/; ComponentLink2Description: LM3370 Datasheet; ComponentLink2URL: http://www.national.com/ds/LM/LM3370.pdf; ComponentLink3Description: LM3370 Web Page; ComponentLink3URL: http://www.national.com/pf/LM/LM3370.html; ComponentLink4Description: SDA16B Package Page; ComponentLink4URL: http://www.national.com/packaging/folders/sda16b.html
footprint SDA16B (SON, 16-Leads, Body 5x4mm, Pitch 0.5mm, NSC Recommended)
pins: 1 VIN2 (power) "Power supply voltage input to PFET and NFET switches for Buck 2", 2 SW2 (power) "Buck 2 Switch Pin", 3 PGND2 (power) "Buck 2 Power Ground", 4 VDD (power) "Signal supply voltage input, VDDmust be equal or greater of the two inputs (VIN1& VIN2)", 5 SGND (power) "Signal GND", 6 PGND1 (power) "Buck 1 Power Ground", 7 SW1 (power) "Buck 1 Switch Pin", 8 VIN1 (power) "Power supply voltage input to PFET and NFET switches for Buck 1", 9 FB1 (in) "Analog Feedback Input for Buck 1", 10 SDA (io) "I2C Compatible Data, a 2 kOhm pull up resistor is required", 11 SCL (in) "I2C Compatible Clock, a 2 kOhm pull up resistor is required", 12 nPOR1 (oc) "Power ON Reset for Buck 1, Open drain output Low when Buck 1 output is 92% of target output.", 13 nPOR2 (oc) "Power ON Reset for Buck 2, Open drain output Low when Buck 2 output is 92% of target output.", 14 EN1 (in) "Buck 1 Enable", 15 EN2 (in) "Buck 2 Enable", 16 FB2 (in) "Analog feedback for Buck 2", 17 DAP (power)